# Altium footprint library Switch_Mechanical.PcbLib: 1 footprints
Each footprint in its own frame and in the unit in brackets; x right, y up, seen from the top. Pads: shape width x height; smd on the part's side, far side on the other; paste and mask are expansions set on the pad; w line width, h text height; cw(c..) or ccw(c..) is an arc to the next point about the centre after c.
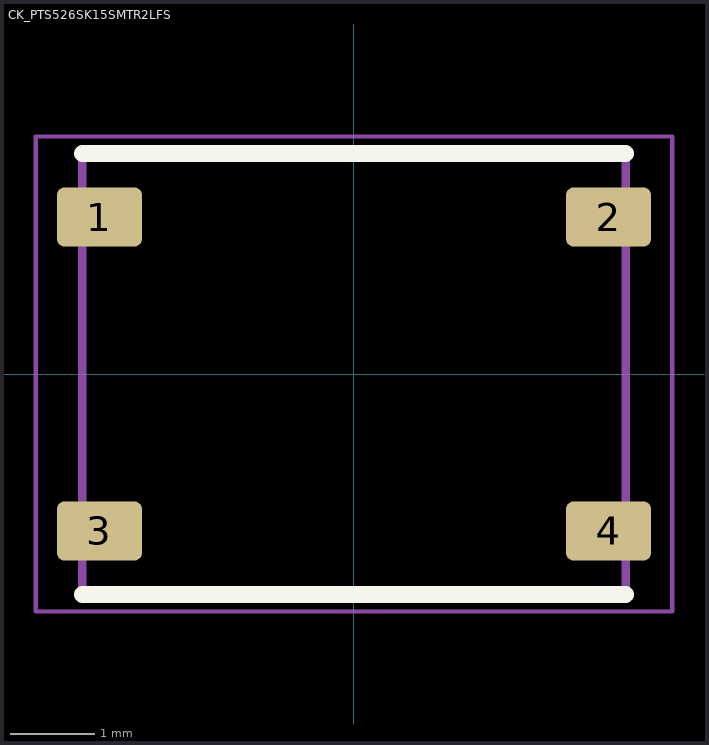
[diagram p0: the footprint, top view; thin cyan lines are the x and y axes]

## CK_PTS526SK15SMTR2LFS [mm] "C&K PTS526 SK15 SMTR2 LFS"
height 1.5
pads (4):
  rrect25% 1x0.7 smd: 1(-3,1.85) 2(3,1.85) 3(-3,-1.85) 4(3,-1.85)
Top Overlay:
  lines w0.2: -3.2,-2.6 3.2,-2.6 ; -3.2,2.6 3.2,2.6
Mechanical 13:
  lines w0.1: -3.2,-2.55 3.2,-2.55 3.2,2.55 -3.2,2.55 -3.2,-2.55
Mechanical 15:
  lines w0.05: -3.75,-2.8 3.75,-2.8 3.75,2.8 -3.75,2.8 -3.75,-2.8
3D body "PTS526SK15SMTR2LFS.stp": height 1.55, standoff 0, extent -3.2,-2.55 3.2,2.55